# Altium schematic symbol library SUD-X.SchLib: 2 symbols
Pins are listed as number, name and electrical type; pins without a type are passive.

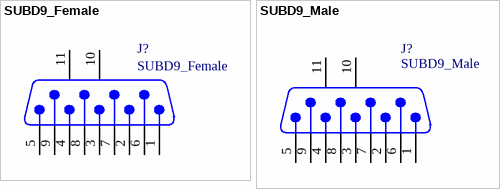
[diagram p0: symbols SUBD9_Female to SUBD9_Male]

## SUBD9_Female
designator J?
footprint SUBD-9_FEMALE
pins: 1, 2, 3, 4, 5, 6, 7, 8, 9, 10 MH1, 11 MH2

## SUBD9_Male
designator J?
footprint SUBD-9_Male
pins: 1, 2, 3, 4, 5, 6, 7, 8, 9, 10 MH1, 11 MH2